# EAGLE library part BTM-222_SERIAL (library BTM_222)
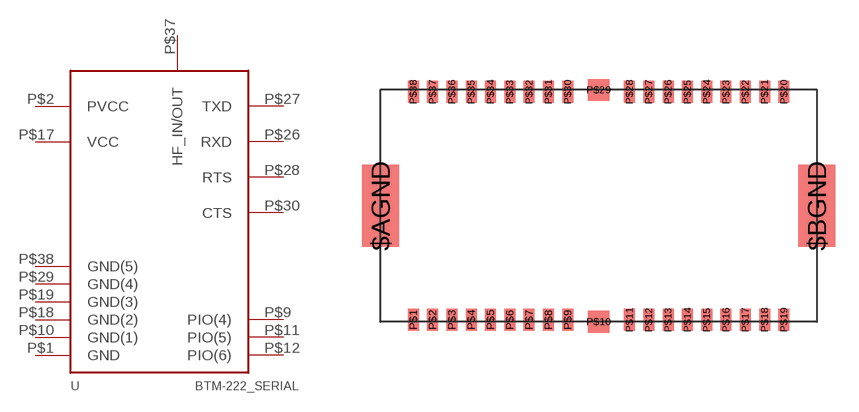
[diagram p1: symbol with the pads of BTM-222; footprint BTM-222]

Designator prefix -

## BTM-222_SERIAL  [BTM-222]
P$1  GND
P$2  PVCC  pwr
P$9  PIO(4)
P$10  GND(1)  pwr
P$11  PIO(5)
P$12  PIO(6)
P$17  VCC  pwr
P$18  GND(2)
P$19  GND(3)
P$26  RXD
P$27  TXD
P$28  RTS
P$29  GND(4)
P$30  CTS
P$37  HF_IN/OUT
P$38  GND(5)

## Footprint BTM-222 (pad centres in mm)
smd 2.4 x 5.3: $AGND -14.625,3.75; $BGND 13.625,3.75
smd 0.711 x 1.422: P$1 -12.5,-3.625; P$2 -11.25,-3.625; P$3 -10,-3.625; P$4 -8.75,-3.625; P$5 -7.5,-3.625; P$6 -6.25,-3.625; P$7 -5,-3.625; P$8 -3.75,-3.625; P$9 -2.5,-3.625; P$11 1.5,-3.625; P$12 2.75,-3.625; P$13 4,-3.625; P$14 5.25,-3.625; P$15 6.5,-3.625; P$16 7.75,-3.625; P$17 9,-3.625; P$18 10.25,-3.625; P$19 11.5,-3.625; P$20 11.5,11.125; P$21 10.25,11.125; P$22 9,11.125; P$23 7.75,11.125; P$24 6.5,11.125; P$25 5.25,11.125; P$26 4,11.125; P$27 2.75,11.125; P$28 1.5,11.125; P$30 -2.5,11.125; P$31 -3.75,11.125; P$32 -5,11.125; P$33 -6.25,11.125; P$34 -7.5,11.125; P$35 -8.75,11.125; P$36 -10,11.125; P$37 -11.25,11.125; P$38 -12.5,11.125
smd 1.422 x 1.4: P$10 -0.5,-3.75; P$29 -0.5,11.25